# EAGLE library part 615008160021 (library USB_c_conn)
WR-MJ Modular Jack THT Horizontal Plastic 8P8C Tab Up MATERIAL PROPERTIES Insulator Material PA9T Insulator Flammability Rating UL94 V-0 Insulator Color Black Contact Material Copper Alloy Contact Plating 6u' on contact plating Contact Type Wired GENERAL INFORMATION Operating Temperature -40 up to +85 °C ELECTRICAL PROPERTIES Working Voltage 150 V (AC) Withstanding Voltage 1000 V (AC) Contact Resistance 20 mΩ RISO 1000 MΩ PACKAGING PROPERTIES Packaging Tray <https://katalog.we-online.com/media/images/v2/o161613v209%20Family_WR-MJTH_615008160021.jpg> Details see: https://katalog.we-online.com/en/em/MJ_THT_HORIZONTAL_PLASTIC_8P8C_TAB_UP Created by Ella Wu 2019-11-05 2019(C) Wurth Elektronik
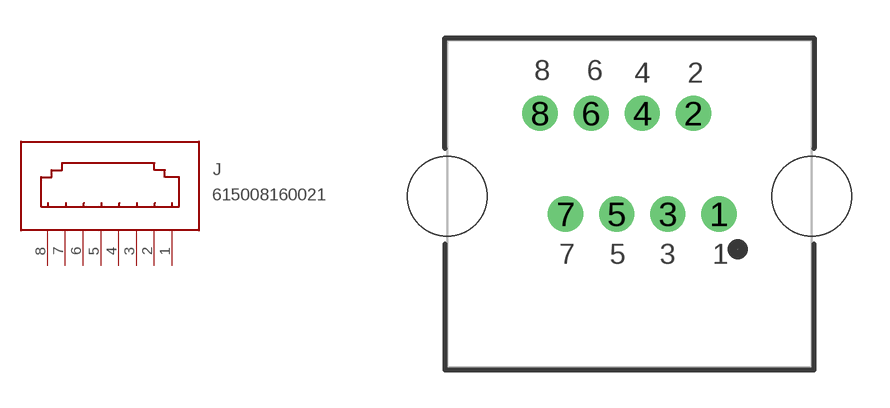
[diagram p196: symbol with the pads of 615008160021; footprint 615008160021]

Designator prefix J

## 615008160021  [615008160021]
1  1  pas
2  2  pas
3  3  pas
4  4  pas
5  5  pas
6  6  pas
7  7  pas
8  8  pas

## Footprint 615008160021 (pad centres in mm)
drill 0.89: 1 3.556,-0.7; 2 2.54,3.3; 3 1.524,-0.7; 4 0.508,3.3; 5 -0.508,-0.7; 6 -1.524,3.3; 7 -2.54,-0.7; 8 -3.556,3.3
hole 3.18 at -7.24,0
hole 3.18 at 7.24,0